# Altium footprint library shunt_resister_package.PcbLib: 4 footprints
Each footprint in its own frame and in the unit in brackets; x right, y up, seen from the top. Pads: shape width x height; smd on the part's side, far side on the other; paste and mask are expansions set on the pad; w line width, h text height; cw(c..) or ccw(c..) is an arc to the next point about the centre after c.
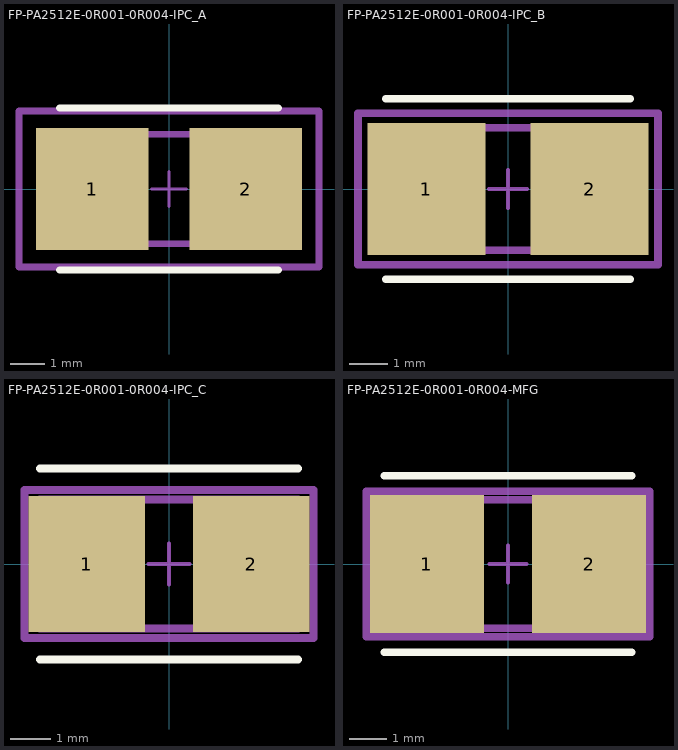
[diagram p0: the footprints below, top view; thin cyan lines are the x and y axes]

## FP-PA2512E-0R001-0R004-IPC_A [mil]
pads (2):
  rect 128.5x139.17 smd paste+0 mask+0: 1(-87.42,0) 2(87.42,0)
Top Overlay:
  lines w7.87: -125,-92.52 125,-92.52 ; -125,92.52 125,92.52
Top Assembly:
  lines w7.87: -171.36,-89.27 171.36,-89.27 171.36,89.27 -171.36,89.27 -171.36,-89.27
  text ".Designator" at 0,7.39 h39.37
Top 3D Body:
  lines w7.87: -125,-62.6 125,-62.6 125,62.6 -125,62.6 -125,-62.6
Top Courtyard:
  lines w7.87: -171.36,-89.27 171.36,-89.27 171.36,89.27 -171.36,89.27 -171.36,-89.27
Top Component Center:
  lines w3.94: -19.68,0 19.68,0 ; 0,-19.68 0,19.68
3D body "Res_Yageo_PA2512FKM7W0R001E_eec.STEP": height 10, standoff 0, extent -171.36,-89.27 171.36,89.27

## FP-PA2512E-0R001-0R004-IPC_B [mm]
pads (2):
  rect 3.064x3.435 smd paste+0 mask+0: 1(-2.121,0) 2(2.121,0)
Top Overlay:
  lines w0.2: -3.175,-2.35 3.175,-2.35 ; -3.175,2.35 3.175,2.35
Top Assembly:
  lines w0.2: -3.902,-1.967 3.902,-1.967 3.902,1.967 -3.902,1.967 -3.902,-1.967
  text ".Designator" at 0,0.188 h1
Top 3D Body:
  lines w0.2: -3.175,-1.59 3.175,-1.59 3.175,1.59 -3.175,1.59 -3.175,-1.59
Top Courtyard:
  lines w0.2: -3.902,-1.967 3.902,-1.967 3.902,1.967 -3.902,1.967 -3.902,-1.967
Top Component Center:
  lines w0.1: -0.5,0 0.5,0 ; 0,-0.5 0,0.5
3D body "Res_Yageo_PA2512FKM7W0R001E_eec.STEP": height 0.25, standoff 0, extent -3.902,-1.967 3.902,1.967

## FP-PA2512E-0R001-0R004-IPC_C [mm]
pads (2):
  rect 2.864x3.335 smd paste+0 mask+0: 1(-2.021,0) 2(2.021,0)
Top Overlay:
  lines w0.2: -3.175,-2.35 3.175,-2.35 ; -3.175,2.35 3.175,2.35
Top Assembly:
  lines w0.2: -3.552,-1.815 3.552,-1.815 3.552,1.815 -3.552,1.815 -3.552,-1.815
  text ".Designator" at 0,0.188 h1
Top 3D Body:
  lines w0.2: -3.175,-1.59 3.175,-1.59 3.175,1.59 -3.175,1.59 -3.175,-1.59
Top Courtyard:
  lines w0.2: -3.552,-1.815 3.552,-1.815 3.552,1.815 -3.552,1.815 -3.552,-1.815
Top Component Center:
  lines w0.1: -0.5,0 0.5,0 ; 0,-0.5 0,0.5
3D body "Res_Yageo_PA2512FKM7W0R001E_eec.STEP": height 0.25, standoff 0, extent -3.552,-1.815 3.552,1.815

## FP-PA2512E-0R001-0R004-MFG [mm]
pads (2):
  rect 3.05x3.68 smd paste+0 mask+0: 1(-2.16,0) 2(2.16,0)
Top Overlay:
  lines w0.2: -3.3,-2.35 3.3,-2.35 ; -3.3,2.35 3.3,2.35
Top Assembly:
  lines w0.2: -3.785,-1.94 3.785,-1.94 3.785,1.94 -3.785,1.94 -3.785,-1.94
  text ".Designator" at 0,0.188 h1
Top 3D Body:
  lines w0.2: -3.3,-1.715 3.3,-1.715 3.3,1.715 -3.3,1.715 -3.3,-1.715
Top Courtyard:
  lines w0.2: -3.785,-1.94 3.785,-1.94 3.785,1.94 -3.785,1.94 -3.785,-1.94
Top Component Center:
  lines w0.1: -0.5,0 0.5,0 ; 0,-0.5 0,0.5
3D body "Res_Yageo_PA2512FKM7W0R001E_eec.STEP": height 0.25, standoff 0, extent -3.785,-1.94 3.785,1.94